# EAGLE library part LTC3525 (library ltc3525)
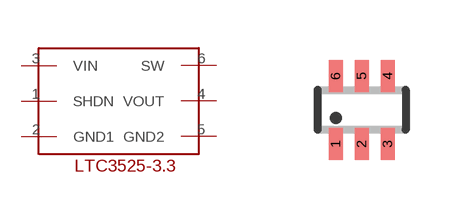
[diagram p0: symbol with the pads of SC70-6; footprint SC70-6]

Designator prefix -

## LTC3525  [SC70-6]
1  SHDN
2  GND1
3  VIN
4  VOUT
5  GND2
6  SW

## Footprint SC70-6 (pad centres in mm)
smd 0.35 x 0.8: 1 -0.65,-0.85; 2 0,-0.85; 3 0.65,-0.85; 4 0.65,0.85; 5 0,0.85; 6 -0.65,0.85